# EAGLE library part PAN3101 (library PAN3101)
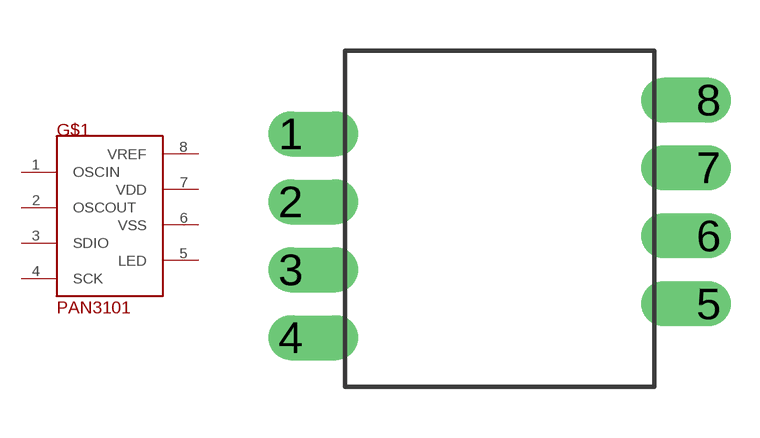
[diagram p0: symbol with the pads of PAN3101; footprint PAN3101]

Designator prefix -

## PAN3101  [PAN3101]
1  OSCIN  in
2  OSCOUT  out
3  SDIO
4  SCK  in
5  LED  out
6  VSS  pwr
7  VDD  pwr
8  VREF  pas

## Footprint PAN3101 (pad centres in mm)
drill 0.813 offset: 1 -6.05,2.5; 2 -6.05,0.5; 3 -6.05,-1.5; 4 -6.05,-3.5; 5 6.25,-2.5; 6 6.25,-0.5; 7 6.25,1.5; 8 6.25,3.5